# Altium schematic symbol library SnapEDAsch.SchLib: 1 symbol
Pins are listed as number, name and electrical type; pins without a type are passive.

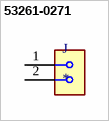
[diagram p0: symbol 53261-0271]

## 53261-0271
designator J
Connector Header Surface Mount, Right Angle 2 position 0.049 _1.25mm_; MP: 53261-0271; MF: Molex; Package: None; Availability: Unavailable; Value: *; SnapEDA_Link: https://www.snapeda.com/parts/53261-0271/Molex/view-part/355901/?ref=snap; Price: None
footprint MOLEX_53261-0271
pins: 1, 2